# EAGLE library part DA7280-00FVC (library DA7280-00FVC)
Motor / Motion / Ignition Controllers & Drivers Haptic Driver ICLRA/ERM Haptic Driver with Multiple Input Triggers, Integrated Waveform Memory and Wideband Support Source: Datasheet <https://www.dialog-semiconductor.com/sites/default/files/da7280_datasheet_3v0.pdf>
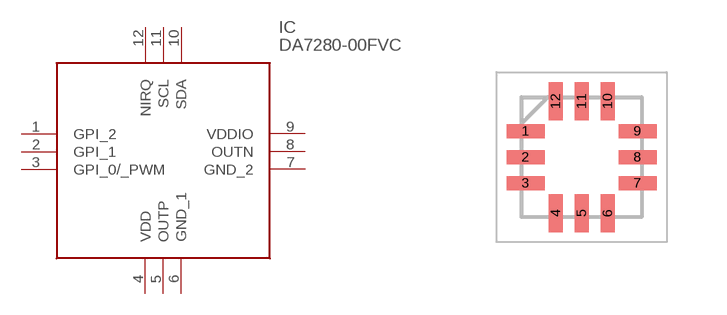
[diagram p0: symbol with the pads of QFN65P300X300X84-12N; footprint QFN65P300X300X84-12N]

Designator prefix IC

## DA7280-00FVC (Description: Motor / Motion / Ignition Controllers & Drivers Haptic Driver ICLRA/ERM Haptic Driver with Multiple Input Triggers, Integrated Waveform Memory and Wideband Support; Height: 0.84mm; Manufacturer_Name: Renesas Electronics; Manufacturer_Part_Number: DA7280-00FVC)  [QFN65P300X300X84-12N]
1  GPI_2
2  GPI_1
3  GPI_0/_PWM
4  VDD
5  OUTP
6  GND_1
7  GND_2
8  OUTN
9  VDDIO
10  SDA
11  SCL
12  NIRQ

## Footprint QFN65P300X300X84-12N (pad centres in mm)
QFN 3.0 x 3.0
smd 0.95 x 0.35: 1 -1.4,0.65; 2 -1.4,0; 3 -1.4,-0.65; 7 1.4,-0.65; 8 1.4,0; 9 1.4,0.65
smd 0.35 x 0.95: 4 -0.65,-1.4; 5 0,-1.4; 6 0.65,-1.4; 10 0.65,1.4; 11 0,1.4; 12 -0.65,1.4